# Altium schematic symbol library SLPX331M200A1P3.SchLib: 1 symbol
Pins are listed as number, name and electrical type; pins without a type are passive.

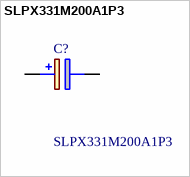
[diagram p0: symbol SLPX331M200A1P3]

## SLPX331M200A1P3
designator C?
Cap Aluminum Lytic 330uF 200V 20% (22 X 25mm) Snap-In 10mm 0.603 Ohm 1510mA 3000h 85C; Manufacturer_Name: Cornell Dubilier; Geometry.Height: 27mm; Mouser Part Number: 598-SLPX331M200A1P3; Mouser Price/Stock: https://www.mouser.co.uk/ProductDetail/Cornell-Dubilier-CDE/SLPX331M200A1P3?qs=tRzVlScAa5ofnbB%2FIUpkZA%3D%3D; Manufacturer_Part_Number: SLPX331M200A1P3; Datasheet Link: https://www.arrow.com/en/products/slpx331m200a1p3/cornell-dubilier-electronics
footprint CAPPRD1000W190D2250H2700
pins: 1 +, 2 -